# Altium footprint library Connectors.PcbLib: 147 footprints (part 5 of 10)
Each footprint in its own frame and in the unit in brackets; x right, y up, seen from the top. Pads: shape width x height; smd on the part's side, far side on the other; paste and mask are expansions set on the pad; w line width, h text height; cw(c..) or ccw(c..) is an arc to the next point about the centre after c.
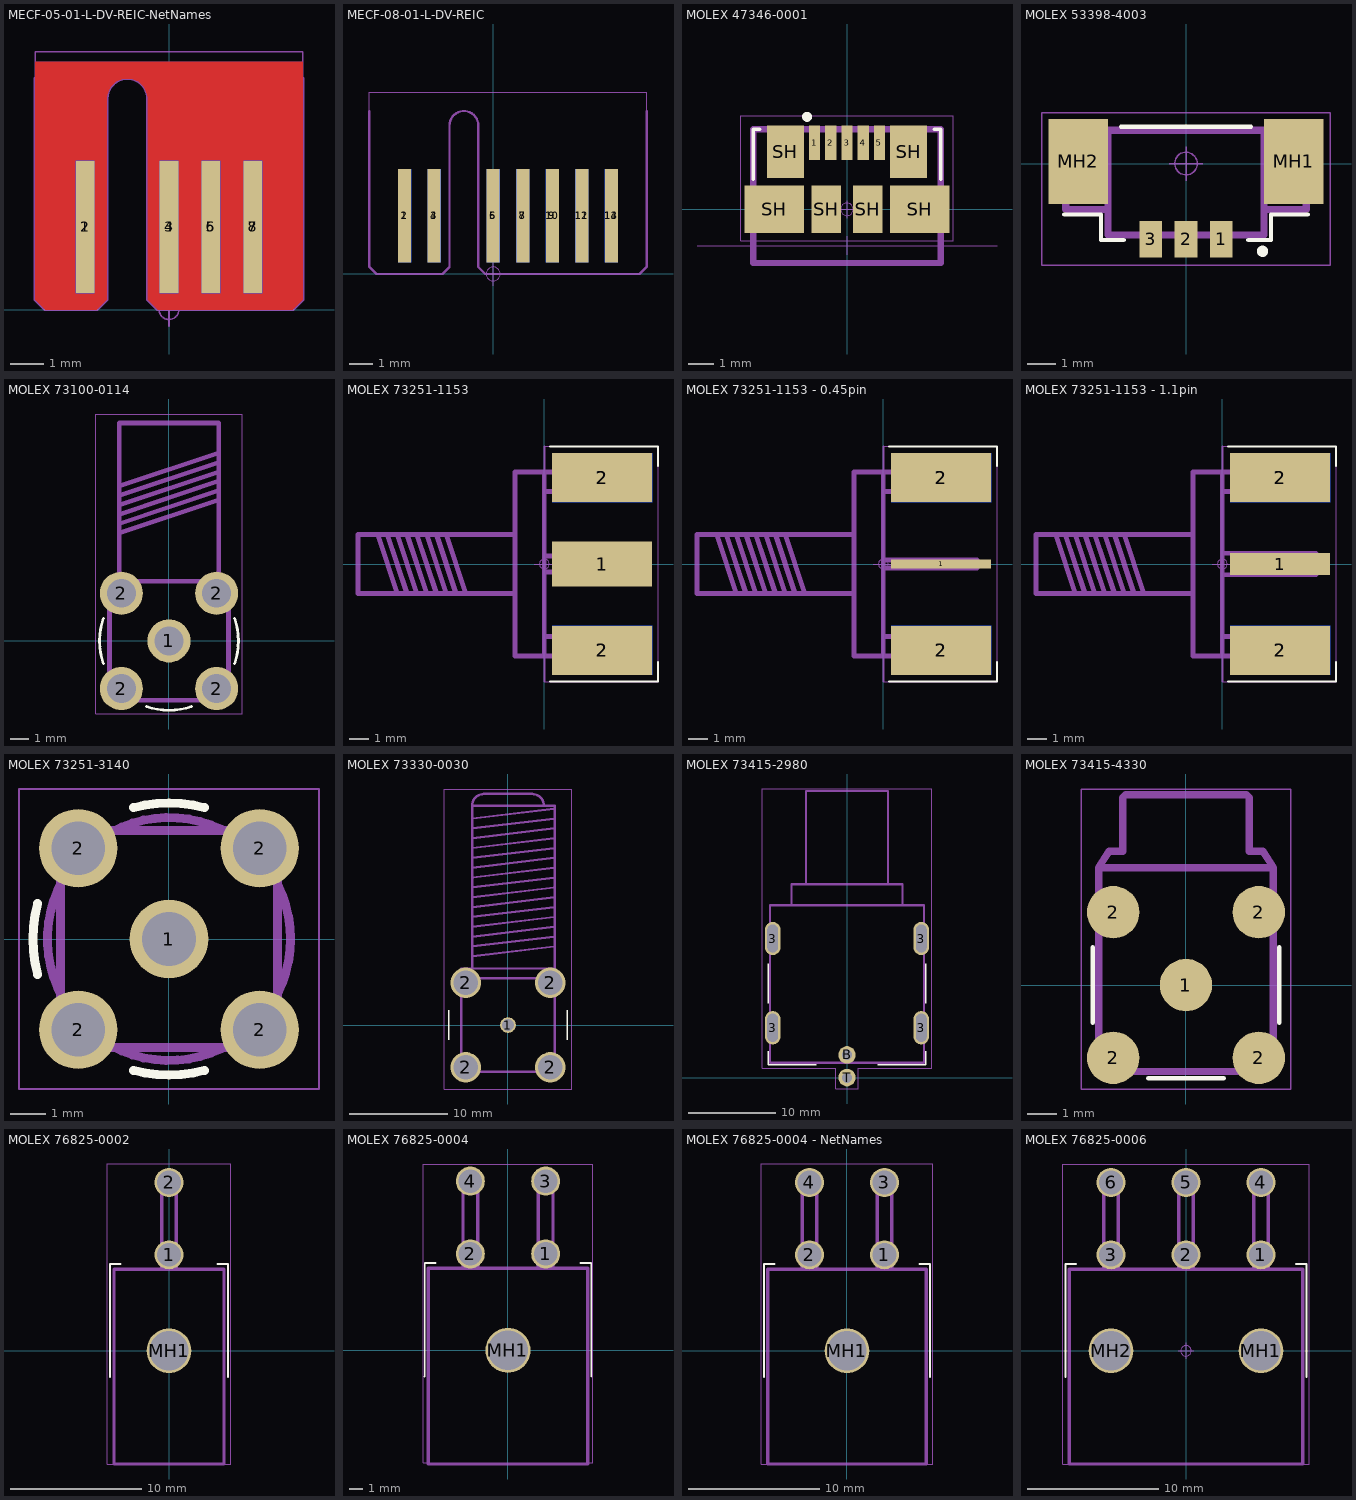
[diagram p4: the footprints below, top view; thin cyan lines are the x and y axes]

## MECF-05-01-L-DV-REIC-NetNames [mm] "Samtec MicroEdge 1.57mm Thick 5(4) pos Polatizaied DoubleRow Edge Connector"
pads (8):
  rect 0.56x4 smd paste-2539.97 mask+0.102: 1(-2.54,2.5) 3(0,2.5) 5(1.27,2.5) 7(2.54,2.5)
  rect 0.56x4 smd far side paste-2539.97 mask+0.102: 2(-2.54,2.5) 4(0,2.5) 6(1.27,2.5) 8(2.54,2.5)
Top Layer:
  pour cut-out: -3.75,0 -4.05,0.3 -4.05,7.5 4.05,7.5 4.05,0.3 3.75,0 -0.34,0 -0.64,0.3 -0.64,6.38 -0.652,6.501 -0.744,6.724 -0.916,6.896 -1.139,6.988 -1.381,6.988 -1.604,6.896 -1.776,6.724 -1.868,6.501 -1.88,6.38 -1.88,0.3 -2.18,0
Bottom Layer:
  pour cut-out: -3.75,0 -4.05,0.3 -4.05,7.5 4.05,7.5 4.05,0.3 3.75,0 -0.34,0 -0.64,0.3 -0.64,6.38 -0.652,6.501 -0.744,6.724 -0.916,6.896 -1.139,6.988 -1.381,6.988 -1.604,6.896 -1.776,6.724 -1.868,6.501 -1.88,6.38 -1.88,0.3 -2.18,0
Top Overlay:
  text ".Net7" at 2.949,7.7 h1.3
  text ".Net5" at 1.678,7.7 h1.3
  text ".Net3" at 0.41,7.7 h1.3
  text ".Net1" at -2.129,7.7 h1.3
Bottom Overlay:
  text ".Net8" at 2.95,7.7 h1.3
  text ".Net6" at 1.68,7.7 h1.3
  text ".Net4" at 0.409,7.7 h1.3
  text ".Net2" at -2.129,7.7 h1.3
Top Solder:
  region: -3.75,0 -4.05,0.3 -4.05,7.5 4.05,7.5 4.05,0.3 3.75,0 -0.34,0 -0.64,0.3 -0.64,6.38 -0.652,6.501 -0.744,6.724 -0.916,6.896 -1.139,6.988 -1.381,6.988 -1.604,6.896 -1.776,6.724 -1.868,6.501 -1.88,6.38 -1.88,0.3 -2.18,0
Bottom Solder:
  region: -3.75,0 -4.05,0.3 -4.05,7.5 4.05,7.5 4.05,0.3 3.75,0 -0.34,0 -0.64,0.3 -0.64,6.38 -0.652,6.501 -0.744,6.724 -0.916,6.896 -1.139,6.988 -1.381,6.988 -1.604,6.896 -1.776,6.724 -1.868,6.501 -1.88,6.38 -1.88,0.3 -2.18,0
Board:
  lines w0.1: -4.05,7 -4.05,0.3 -3.75,0 -2.18,0 -1.88,0.3 -1.88,6.38 cw(c-1.26,6.38) -0.64,6.38 -0.64,0.3 -0.34,0 3.75,0 4.05,0.3 4.05,7
Top Courtyard:
  circle w0.05: c0,0 r0.3
  lines w0.05: 0,-0.5 0,0.5 ; -4.05,0.3 -3.75,0 -2.18,0 -1.88,0.3 -1.88,6.38 cw(c-1.26,6.38) -0.64,6.38 -0.64,0.3 -0.34,0 3.75,0 4.05,0.3 4.05,7.8 -4.05,7.8 -4.05,0.3
Bottom Courtyard:
  circle w0.05: c0,0 r0.3
  lines w0.05: 0,-0.5 0,0.5 ; -4.05,0.3 -3.75,0 -2.18,0 -1.88,0.3 -1.88,6.38 cw(c-1.26,6.38) -0.64,6.38 -0.64,0.3 -0.34,0 3.75,0 4.05,0.3 4.05,7.8 -4.05,7.8 -4.05,0.3

## MECF-08-01-L-DV-REIC [mm] "Samtec MicroEdge 1.57mm Thick 8(7) pos Polatizaied DoubleRow Edge Connector"
pads (14):
  rect 0.56x4 smd paste-2539.97 mask+0.102: 1(-3.81,2.5) 3(-2.54,2.5) 5(0,2.5) 7(1.27,2.5) 9(2.54,2.5) 11(3.81,2.5) 13(5.08,2.5)
  rect 0.56x4 smd far side paste-2539.97 mask+0.102: 2(-3.81,2.5) 4(-2.54,2.5) 6(0,2.5) 8(1.27,2.5) 10(2.54,2.5) 12(3.81,2.5) 14(5.08,2.5)
Top Solder:
  region: -5.32,0.3 -5.32,7.5 6.59,7.5 6.59,0.3 6.29,0 -0.34,0 -0.64,0.3 -0.64,6.38 -0.652,6.501 -0.744,6.724 -0.916,6.896 -1.139,6.988 -1.381,6.988 -1.604,6.896 -1.776,6.724 -1.868,6.501 -1.88,6.38 -1.88,0.3 -2.18,0 -5.02,0
Bottom Solder:
  region: -5.32,0.3 -5.32,7.5 6.59,7.5 6.59,0.3 6.29,0 -0.34,0 -0.64,0.3 -0.64,6.38 -0.652,6.501 -0.744,6.724 -0.916,6.896 -1.139,6.988 -1.381,6.988 -1.604,6.896 -1.776,6.724 -1.868,6.501 -1.88,6.38 -1.88,0.3 -2.18,0 -5.02,0
Board:
  lines w0.1: -5.32,7 -5.32,0.3 -5.02,0 -2.18,0 -1.88,0.3 -1.88,6.38 cw(c-1.26,6.38) -0.64,6.38 -0.64,0.3 -0.34,0 6.29,0 6.59,0.3 6.59,7
Top Courtyard:
  circle w0.05: c0,0 r0.3
  lines w0.05: 0,-0.5 0,0.5 ; -5.32,0.3 -5.32,7.8 6.59,7.8 6.59,0.3 6.29,0 -0.34,0 -0.64,0.3 -0.64,6.38 ccw(c-1.26,6.38) -1.88,6.38 -1.88,0.3 -2.18,0 -5.02,0 -5.32,0.3
Bottom Courtyard:
  circle w0.05: c0,0 r0.3
  lines w0.05: 0,-0.5 0,0.5 ; -5.32,0.3 -5.32,7.8 6.59,7.8 6.59,0.3 6.29,0 -0.34,0 -0.64,0.3 -0.64,6.38 ccw(c-1.26,6.38) -1.88,6.38 -1.88,0.3 -2.18,0 -5.02,0 -5.32,0.3

## MOLEX 47346-0001 [mm] "Molex USB - micro B USB 2.0 Receptacle Connector 5 Position Surface Mount, Right Angle"
height 3.5
pads (11):
  rect 0.45x1.38 smd: 1(-1.3,2.66) 2(-0.65,2.66) 3(0,2.66) 4(0.65,2.66) 5(1.3,2.66)
  rect 2.375x1.9 smd: SH(-2.913,0) SH(2.913,0)
  rect 1.475x2.1 smd: SH(-2.462,2.3) SH(2.462,2.3)
  rect 1.175x1.9 smd: SH(-0.837,0) SH(0.837,0)
Top Overlay:
  circle w0.25: c-1.6,3.7 r0.075
  lines w0.15: -3.75,1.2 -3.75,3.2 -3.5,3.2 ; 3.5,3.2 3.75,3.2 3.75,1.2
Top Assembly:
  lines w0.25: -3.75,-2.15 -3.75,3.2 3.75,3.2 3.75,-2.15 -3.75,-2.15
  text ".Designator" at -3.302,-0.099 h1.5
Top Courtyard:
  circle w0.05: c0,0 r0.25
  lines w0.05: -6,-1.45 6,-1.45 ; -0.35,0 0.35,0 ; 0,-1.825 0,-1.075 ; 0,-0.35 0,0.35 ; -4.25,-1.25 4.25,-1.25 4.25,3.75 -4.25,3.75 -4.25,-1.25
  text "PCB EDGE" at -5.91,-1.853 h0.31
3D body "47346-0001--3DModel-STEP-56544.STEP": height 2.7, standoff -0.25, extent -4.18,-2.205 4.18,3.225

## MOLEX 53398-4003 [mm] "1.25mm Pitch, PicoBlade PCB Header, Single Row, Vertical, Surface Mount, Gold Flash Plating, 3 Circuits, Tape and Reel"
height 4.7
pads (5):
  rect 0.8x1.3 smd: 1(1.25,-2.675) 2(0,-2.675) 3(-1.25,-2.675)
  rect 2.1x3 smd: MH1(3.8,0.075) MH2(-3.8,0.075)
Top Overlay:
  circle w0.25: c2.7,-3.1 r0.075
  lines w0.15: -4.3,-1.8 -3,-1.8 -3,-2.7 -2.2,-2.7 ; -2.3,1.3 2.3,1.3 ; 2.2,-2.7 3,-2.7 3,-1.8 4.3,-1.8
Top Assembly:
  lines w0.25: -2.75,-1.625 -4.25,-1.625 -4.25,1.175 4.25,1.175 4.25,-1.625 2.75,-1.625 ; -2.75,1.175 -2.75,-2.525 2.75,-2.525 2.75,1.175
  text ".Designator" at -5.637,-0.566 h2.5
Top Courtyard:
  circle w0.05: c0,0 r0.4
  lines w0.05: -0.6,0 0.6,0 ; 0,-0.6 0,0.6 ; -5.098,-3.598 5.098,-3.598 5.098,1.798 -5.098,1.798 -5.098,-3.598
3D body "533984003_Colors.STEP": height 4.71, standoff 0.01, extent -4.45,-3.025 4.45,1.175

## MOLEX 73100-0114 [mm] "50 Ohms, SMA Right-Angle PCB Jack Receptacle, Brass Body, Gold Plated, Tray"
height 9.5
pads (5):
  round 2.3 hole 1.54 paste-2539.97: 1(0,0) 2(-2.54,-2.54) 2(-2.54,2.54) 2(2.54,-2.54) 2(2.54,2.54)
Top Overlay:
  lines w0.15: -3.5,-1.2 cw(c0,0) -3.5,1.2 ; -1.2,-3.5 ccw(c0,0) 1.2,-3.5 ; 3.5,-1.2 ccw(c0,0) 3.5,1.2
Top Assembly:
  lines w0.25: -2.62,5.76 2.6,7.5 ; -2.62,6.26 2.6,8 ; -2.62,6.76 2.6,8.5 ; -2.62,7.26 2.6,9 ; -2.62,7.76 2.6,9.5 ; -2.62,8.26 2.6,10 ; -3.173,-3.173 3.173,-3.173 3.173,3.173 -3.173,3.173 -3.173,-3.173 ; -2.648,3.177 2.648,3.177 2.648,11.623 -2.648,11.623 -2.648,3.177
  text ".Designator" at -3.379,-0.339 h1.5
Top Courtyard:
  circle w0.05: c0,0 r0.4
  lines w0.05: -0.6,0 0.6,0 ; 0,-0.6 0,0.6 ; -3.898,-3.898 3.898,-3.898 3.898,12.098 -3.898,12.098 -3.898,-3.898
3D body "Molex_731000114_Colors.STEP": height 9.62, standoff -3.88, extent -3.175,-3.175 3.175,11.625

## MOLEX 73251-1153 [mm] "MOLEX 50 Ohms, SMA Jack Receptacle, Edge Mount, .25µm Gold (Au) Plating"
height 4.5
pads (5):
  rect 5.1x2.3 smd: 1(2.95,0)
  rect 5.1x2.5 smd: 2(2.95,-4.4) 2(2.95,4.4)
  rect 5.1x2.5 smd far side: 2(2.95,-4.4) 2(2.95,4.4)
Top Overlay:
  lines w0.1: 0.3,-6 5.8,-6 5.8,-5 ; 0.3,6 5.8,6 5.8,5
Bottom Overlay:
  lines w0.1: 0.3,-6 5.8,-6 5.8,-5 ; 0.3,6 5.8,6 5.8,5
Top Assembly:
  lines w0.25: -8.5,1.5 -7.5,-1.5 ; -8,1.5 -7,-1.5 ; -7.5,1.5 -6.5,-1.5 ; -7,1.5 -6,-1.5 ; -6.5,1.5 -5.5,-1.5 ; -6,1.5 -5,-1.5 ; -5.5,1.5 -4.5,-1.5 ; -5,1.5 -4,-1.5 ; -1.5,-1.5 -9.5,-1.5 -9.5,1.5 -1.5,1.5 ; 0,-3.7 4.75,-3.7 4.75,-4.7 0,-4.7 ; 0,-0.4 4.775,-0.4 4.775,0.4 0,0.4 ; 0,3.7 4.75,3.7 4.75,4.7 0,4.7 ; 0,-4.7 -1.5,-4.7 -1.5,4.7 0,4.7 ; 0,-4.7 0,4.7
  text ".Designator" at 0.3,1.3 h1.5
Bottom Assembly:
  lines w0.25: -8.5,1.5 -7.5,-1.5 ; -8,1.5 -7,-1.5 ; -7.5,1.5 -6.5,-1.5 ; -7,1.5 -6,-1.5 ; -6.5,1.5 -5.5,-1.5 ; -6,1.5 -5,-1.5 ; -5.5,1.5 -4.5,-1.5 ; -5,1.5 -4,-1.5 ; -1.5,-1.5 -9.5,-1.5 -9.5,1.5 -1.5,1.5 ; 0,-3.7 4.75,-3.7 4.75,-4.7 0,-4.7 ; 0,3.7 4.75,3.7 4.75,4.7 0,4.7 ; 0,-4.7 0,4.7 ; 0,-4.7 -1.5,-4.7 -1.5,4.7 0,4.7
Board:
  lines w0.1: 0,-6 0,6
Top Courtyard:
  circle w0.05: c0,0 r0.25
  lines w0.05: -0.5,0 0.5,0 ; 0,-6 0,6 5.8,6 5.8,-6 0,-6
Bottom Courtyard:
  circle w0.05: c0,0 r0.25
  lines w0.05: -0.5,0 0.5,0 ; 0,-6 5.8,-6 5.8,6 0,6 0,-6
3D body "732511150.stp": height 4.36, standoff -3.56, extent -9.5,-4.762 4.775,4.763

## MOLEX 73251-1153 - 0.45pin [mm] "MOLEX 50 Ohms, SMA Jack Receptacle, Edge Mount, .25µm Gold (Au) Plating"
height 4.5
pads (5):
  rect 5.1x0.45 smd: 1(2.95,0)
  rect 5.1x2.5 smd: 2(2.95,-4.4) 2(2.95,4.4)
  rect 5.1x2.5 smd far side: 2(2.95,-4.4) 2(2.95,4.4)
Top Overlay:
  lines w0.1: 0.3,-6 5.8,-6 5.8,-5 ; 0.3,6 5.8,6 5.8,5
Bottom Overlay:
  lines w0.1: 0.3,-6 5.8,-6 5.8,-5 ; 0.3,6 5.8,6 5.8,5
Top Assembly:
  lines w0.25: -8.5,1.5 -7.5,-1.5 ; -8,1.5 -7,-1.5 ; -7.5,1.5 -6.5,-1.5 ; -7,1.5 -6,-1.5 ; -6.5,1.5 -5.5,-1.5 ; -6,1.5 -5,-1.5 ; -5.5,1.5 -4.5,-1.5 ; -5,1.5 -4,-1.5 ; -1.5,-1.5 -9.5,-1.5 -9.5,1.5 -1.5,1.5 ; 0,-3.7 4.75,-3.7 4.75,-4.7 0,-4.7 ; 0,-0.2 4.775,-0.2 4.775,0.2 0,0.2 ; 0,3.7 4.75,3.7 4.75,4.7 0,4.7 ; 0,-4.7 0,4.7 ; 0,-4.7 -1.5,-4.7 -1.5,4.7 0,4.7
  text ".Designator" at 0.3,1.3 h1.5
Bottom Assembly:
  lines w0.25: -8.5,1.5 -7.5,-1.5 ; -8,1.5 -7,-1.5 ; -7.5,1.5 -6.5,-1.5 ; -7,1.5 -6,-1.5 ; -6.5,1.5 -5.5,-1.5 ; -6,1.5 -5,-1.5 ; -5.5,1.5 -4.5,-1.5 ; -5,1.5 -4,-1.5 ; -1.5,-1.5 -9.5,-1.5 -9.5,1.5 -1.5,1.5 ; 0,-3.7 4.75,-3.7 4.75,-4.7 0,-4.7 ; 0,3.7 4.75,3.7 4.75,4.7 0,4.7 ; 0,-4.7 -1.5,-4.7 -1.5,4.7 0,4.7 ; 0,-4.7 0,4.7
Board:
  lines w0.1: 0,-6 0,6
Top Courtyard:
  circle w0.05: c0,0 r0.25
  lines w0.05: -0.5,0 0.5,0 ; 0,-6 0,6 5.8,6 5.8,-6 0,-6
Bottom Courtyard:
  circle w0.05: c0,0 r0.25
  lines w0.05: -0.5,0 0.5,0 ; 0,-6 0,6 5.8,6 5.8,-6 0,-6
3D body "732511150.stp": height 4.36, standoff -3.56, extent -9.5,-4.762 4.775,4.763

## MOLEX 73251-1153 - 1.1pin [mm] "MOLEX 50 Ohms, SMA Jack Receptacle, Edge Mount, .25µm Gold (Au) Plating"
height 4.5
pads (5):
  rect 5.1x1.1 smd: 1(2.95,0)
  rect 5.1x2.5 smd: 2(2.95,-4.4) 2(2.95,4.4)
  rect 5.1x2.5 smd far side: 2(2.95,-4.4) 2(2.95,4.4)
Top Overlay:
  lines w0.1: 0.3,-6 5.8,-6 5.8,-5 ; 0.3,6 5.8,6 5.8,5
Bottom Overlay:
  lines w0.1: 0.3,-6 5.8,-6 5.8,-5 ; 0.3,6 5.8,6 5.8,5
Top Assembly:
  lines w0.25: -8.5,1.5 -7.5,-1.5 ; -8,1.5 -7,-1.5 ; -7.5,1.5 -6.5,-1.5 ; -7,1.5 -6,-1.5 ; -6.5,1.5 -5.5,-1.5 ; -6,1.5 -5,-1.5 ; -5.5,1.5 -4.5,-1.5 ; -5,1.5 -4,-1.5 ; -1.5,-1.5 -9.5,-1.5 -9.5,1.5 -1.5,1.5 ; 0,-3.7 4.75,-3.7 4.75,-4.7 0,-4.7 ; 0,-0.55 4.775,-0.55 4.775,0.55 0,0.55 ; 0,3.7 4.75,3.7 4.75,4.7 0,4.7 ; 0,-4.7 0,4.7 ; 0,-4.7 -1.5,-4.7 -1.5,4.7 0,4.7
  text ".Designator" at 0.3,1.3 h1.5
Bottom Assembly:
  lines w0.25: -8.5,1.5 -7.5,-1.5 ; -8,1.5 -7,-1.5 ; -7.5,1.5 -6.5,-1.5 ; -7,1.5 -6,-1.5 ; -6.5,1.5 -5.5,-1.5 ; -6,1.5 -5,-1.5 ; -5.5,1.5 -4.5,-1.5 ; -5,1.5 -4,-1.5 ; -1.5,-1.5 -9.5,-1.5 -9.5,1.5 -1.5,1.5 ; 0,-3.7 4.75,-3.7 4.75,-4.7 0,-4.7 ; 0,3.7 4.75,3.7 4.75,4.7 0,4.7 ; 0,-4.7 -1.5,-4.7 -1.5,4.7 0,4.7 ; 0,-4.7 0,4.7
Board:
  lines w0.1: 0,-6 0,6
Top Courtyard:
  circle w0.05: c0,0 r0.25
  lines w0.05: -0.5,0 0.5,0 ; 0,-6 5.8,-6 5.8,6 0,6 0,-6
Bottom Courtyard:
  circle w0.05: c0,0 r0.25
  lines w0.05: -0.5,0 0.5,0 ; 0,-6 0,6 5.8,6 5.8,-6 0,-6
3D body "732511150.stp": height 4.36, standoff -3.56, extent -9.5,-4.762 4.775,4.763

## MOLEX 73251-3140 [mm] "MOLEX 50 Ohms, SMA PCB Jack Receptacle, Through Hole"
height 10.5
pads (5):
  round 2.2 hole 1.5: 1(0,0) 2(-2.54,-2.54) 2(-2.54,2.54) 2(2.54,-2.54) 2(2.54,2.54)
Top Overlay:
  lines w0.25: -3.676,-0.994 cw(c0,0) -3.676,0.994 ; -0.994,-3.676 ccw(c0,0) 0.994,-3.676 ; -0.994,3.676 cw(c0,0) 0.994,3.676
Top Assembly:
  circle w0.25: c0,0 r3.4
  lines w0.25: -3.04,-3.04 -3.04,3.04 3.04,3.04 3.04,-3.04 -3.04,-3.04
  text ".Designator" at -2.4,-0.518 h1.5
Top Courtyard:
  circle w0.05: c0,0 r0.4
  lines w0.05: -0.6,0 0.6,0 ; 0,-0.6 0,0.6 ; -4.198,-4.198 4.198,-4.198 4.198,4.198 -4.198,4.198 -4.198,-4.198
3D body "732513140.stp": height 9.55, standoff -3.95, extent -3.129,-3.128 3.129,3.128

## MOLEX 73330-0030 [mm] "75 Ohms, F Right-Angle Printed Circuit Board Jack Receptacle"
height 16
pads (5):
  round 1.6 hole 1.2: 1(0,0)
  round 3.1 hole 2.5: 2(-4.3,-4.3) 2(-4.3,4.3) 2(4.3,-4.3) 2(4.3,4.3)
Top Overlay:
  lines w0.15: -6,-1.5 -6,1.5 ; 6,-1.5 6,1.5
Top Assembly:
  lines w0.25: -3.65,22.3 cw(c-2.449,22.3) -2.449,23.501 2.45,23.501 cw(c2.45,22.3) 3.651,22.3 ; -3.6,7 4.701,7.988 ; -3.6,8 4.701,8.988 ; -3.6,9 4.701,9.988 ; -3.6,10 4.701,10.988 ; -3.6,11 4.701,11.988 ; -3.6,12 4.701,12.988 ; -3.6,13 4.701,13.988 ; -3.6,14 4.701,14.988 ; -3.6,15 4.701,15.988 ; -3.6,16 4.701,16.988 ; -3.6,17 4.701,17.988 ; -3.6,18 4.701,18.988 ; -3.6,19 4.701,19.988 ; -3.6,20 4.701,20.988 ; -3.6,21 4.701,21.988 ; -4.75,4.75 4.75,4.75 ; -4.75,4.75 -4.75,-4.75 4.75,-4.75 4.75,4.75 ; -4.75,4.75 4.75,4.75 ; -4.75,4.75 -4.75,5.75 4.75,5.75 4.75,4.75 ; -3.648,5.752 4.748,5.752 4.748,22.298 -3.648,22.298 -3.648,5.752
  text ".Designator" at -3.378,-0.339 h1.5
Top Courtyard:
  circle w0.05: c0,0 r0.4
  lines w0.05: -0.6,0 0.6,0 ; 0,-0.6 0,0.6 ; -6.5,-6.5 6.5,-6.5 6.5,24 -6.5,24 -6.5,-6.5
3D body "733300030.stp": height 13.01, standoff -4.69, extent -4.75,-4.75 4.75,23.45

## MOLEX 73415-2980 [mm] "50 Ohms, BNC Jack, Dual Stack, Tray"
height 30.5
pads (6):
  oval 1.8x3.8 hole 1.2 slot 3.2 at 90 deg: 3(-8.5,5.703) 3(-8.5,15.903) 3(8.5,5.703) 3(8.5,15.903)
  round 2 hole 1.2: B(0,2.603) T(0,0)
Top Overlay:
  lines w0.15: -9,3 -9,1.5 -3.5,1.5 ; -9,8.5 -9,13 ; 3.5,1.5 9,1.5 9,3 ; 9,8.5 9,13
Top Assembly:
  lines w0.25: -6.323,19.703 -6.35,19.703 -6.35,22.103 6.35,22.103 6.35,19.703 6.364,19.703 ; -4.675,22.103 -4.675,32.783 4.675,32.783 4.675,22.103 ; -8.8,1.703 -8.8,19.703 8.8,19.703 8.8,1.703 -8.8,1.703
  text ".Designator" at -3.378,4.261 h1.5
Top Courtyard:
  lines w0.05: -0.7,0 0.7,0 ; 0,-0.7 0,0.7 ; -9.7,1.1 -1.3,1.1 -1.3,-1.3 1.3,-1.3 1.3,1.1 9.7,1.1 9.7,33 -9.7,33 -9.7,1.1
3D body "734152980_colors.STEP": height 30.51, standoff -5.09, extent -8.8,-0.5 8.8,32.783

## MOLEX 73415-4330 [mm] "75 Ohms, MCX Jack, Right-Angle, Nickel Plated Outer Contact, Tri-M Plated Housing, Tray"
height 6.5
pads (5):
  round 1.8 smd: 1(0,0) 2(-2.5,-2.5) 2(-2.5,2.5) 2(2.5,-2.5) 2(2.5,2.5)
Top Overlay:
  lines w0.15: -3.2,-1.3 -3.2,1.3 ; -1.3,-3.2 1.3,-3.2 ; 3.2,-1.3 3.2,1.3
Top Assembly:
  lines w0.25: -3,4.03 -2.636,4.595 -2.175,4.595 -2.175,6.43 -2.075,6.53 2.075,6.53 2.175,6.43 2.175,4.595 2.637,4.595 3,4.03 ; -2.998,-2.968 2.998,-2.968 2.998,4.028 -2.998,4.028 -2.998,-2.968
  text ".Designator" at -3.378,-0.339 h1.5
Top Courtyard:
  circle w0.05: c0,0 r0.4
  lines w0.05: -0.6,0 0.6,0 ; 0,-0.6 0,0.6 ; -3.598,-3.568 3.598,-3.568 3.598,6.728 -3.598,6.728 -3.598,-3.568
3D body "734154330_Colors.STEP": height 6.51, standoff 0.01, extent -3,-3 3,6.53

## MOLEX 76825-0002 [mm] "Mega-Fit Right-Angle Header, 2 Circuits, Tin (Sn) Plating, UL 94 V-0, Glow-Wire Capable, Tray"
height 14.53
pads (3):
  round 2.2 hole 1.8: 1(0,7.3) 2(0,12.8)
  round 3.4 hole 3 unplated: MH1(0,0)
Top Overlay:
  lines w0.15: -4.501,-1.976 -4.5,-1.975 -4.5,6.6 -3.701,6.6 ; 3.701,6.6 4.5,6.6 4.5,-1.975 4.501,-1.976
Top Assembly:
  lines w0.25: -0.56,6.2 -0.56,13.36 ; -0.56,6.74 0.56,6.74 ; -0.56,7.86 0.56,7.86 ; -0.56,12.24 0.56,12.24 ; 0.56,6.2 0.56,13.36 ; -0.56,13.36 -0.56,13.36 ; -0.56,13.36 0.56,13.36 ; 0.56,13.36 0.56,13.36 ; -4.18,-8.6 -4.18,6.2 4.18,6.2 4.18,-8.6 -4.18,-8.6
  text ".Designator" at -3,-2.718 h1.5
Top Courtyard:
  circle w0.05: c0,0 r0.4
  lines w0.05: -0.6,0 0.6,0 ; 0,-0.6 0,0.6 ; -4.7,-8.6 4.7,-8.6 4.7,14.2 -4.7,14.2 -4.7,-8.6
3D body "768250002.STEP": height 14.55, standoff -3.59, extent -4.177,-8.6 4.172,13.362

## MOLEX 76825-0004 [mm] "Mega-Fit Right-Angle Header, 4 Circuits, Tin (Sn) Plating, UL 94 V-0, Glow-Wire Capable, Tray"
height 14.53
pads (5):
  round 2.2 hole 1.8: 1(2.85,7.3) 2(-2.85,7.3) 3(2.85,12.8) 4(-2.85,12.8)
  round 3.4 hole 3 unplated: MH1(0,0)
Top Overlay:
  lines w0.15: -6.3,-1.976 -6.299,-1.975 -6.299,6.6 -5.5,6.6 ; 5.5,6.6 6.299,6.6 6.299,-1.975
Top Assembly:
  lines w0.25: -3.41,6.2 -3.41,13.36 ; -3.41,6.74 -2.29,6.74 ; -3.41,7.86 -2.29,7.86 ; -3.41,12.24 -2.29,12.24 ; -2.29,6.2 -2.29,13.36 ; 2.29,6.2 2.29,13.36 ; 2.29,6.74 3.41,6.74 ; 2.29,7.86 3.41,7.86 ; 2.29,12.24 3.41,12.24 ; 3.41,6.2 3.41,13.36 ; -3.41,13.36 -2.29,13.36 ; -3.41,13.36 -3.41,13.36 ; -2.29,13.36 -2.29,13.36 ; 2.29,13.36 3.41,13.36 ; 2.29,13.36 2.29,13.36 ; 3.41,13.36 3.41,13.36 ; -6.025,-8.6 6.025,-8.6 6.025,6.2 -6.025,6.2 -6.025,-8.6
  text ".Designator" at -3,-2.718 h1.5
Top Courtyard:
  circle w0.05: c0,0 r0.4
  lines w0.05: -0.6,0 0.6,0 ; 0,-0.6 0,0.6 ; -6.423,-8.498 6.423,-8.498 6.423,14.098 -6.423,14.098 -6.423,-8.498
3D body "768250004_colors.STEP": height 14.52, standoff -3.62, extent -6.025,-8.6 6.035,13.362

## MOLEX 76825-0004 - NetNames [mm] "Mega-Fit Right-Angle Header, 4 Circuits, Tin (Sn) Plating, UL 94 V-0, Glow-Wire Capable, Tray, With Net Names on Overlay"
height 14.53
pads (5):
  round 2.2 hole 1.8: 1(2.85,7.3) 2(-2.85,7.3) 3(2.85,12.8) 4(-2.85,12.8)
  round 3.4 hole 3 unplated: MH1(0,0)
Top Overlay:
  lines w0.15: -6.3,-1.976 -6.299,-1.975 -6.299,6.6 -5.5,6.6 ; 5.5,6.6 6.299,6.6 6.299,-1.975
  text ".Net1" at 4.2,7.01 h1
  text ".Net2" at -6.3,7.11 h1
  text ".Net3" at 4.2,12.511 h1
  text ".Net4" at -6.4,12.51 h1
Top Assembly:
  lines w0.25: -3.41,6.2 -3.41,13.36 ; -3.41,6.74 -2.29,6.74 ; -3.41,7.86 -2.29,7.86 ; -3.41,12.24 -2.29,12.24 ; -2.29,6.2 -2.29,13.36 ; 2.29,6.2 2.29,13.36 ; 2.29,6.74 3.41,6.74 ; 2.29,7.86 3.41,7.86 ; 2.29,12.24 3.41,12.24 ; 3.41,6.2 3.41,13.36 ; -3.41,13.36 -3.41,13.36 ; -3.41,13.36 -2.29,13.36 ; -2.29,13.36 -2.29,13.36 ; 2.29,13.36 2.29,13.36 ; 2.29,13.36 3.41,13.36 ; 3.41,13.36 3.41,13.36 ; -6.025,-8.6 -6.025,6.2 6.025,6.2 6.025,-8.6 -6.025,-8.6
  text ".Designator" at -3,-2.718 h1.5
Top Courtyard:
  circle w0.05: c0,0 r0.4
  lines w0.05: -0.6,0 0.6,0 ; 0,-0.6 0,0.6 ; -6.525,-8.6 -6.525,14.2 6.525,14.2 6.525,-8.6 -6.525,-8.6
3D body "768250004_colors.STEP": height 14.52, standoff -3.62, extent -6.025,-8.6 6.035,13.362

## MOLEX 76825-0006 [mm] "Mega-Fit Right-Angle Header, 6 Circuits, Tin (Sn) Plating, UL 94 V-0, Glow-Wire Capable, Tray"
height 14.53
pads (8):
  round 2.2 hole 1.8: 1(5.7,7.3) 2(0,7.3) 3(-5.7,7.3) 4(5.7,12.8) 5(0,12.8) 6(-5.7,12.8)
  round 3.4 hole 3 unplated: MH1(5.7,0) MH2(-5.7,0)
Top Overlay:
  lines w0.15: -9.15,-1.976 -9.149,-1.975 -9.149,6.6 -8.35,6.6 ; 8.35,6.6 9.149,6.6 9.149,-1.975
Top Assembly:
  lines w0.25: -6.26,6.2 -6.26,13.36 ; -6.26,6.74 -5.14,6.74 ; -6.26,7.86 -5.14,7.86 ; -6.26,12.24 -5.14,12.24 ; -5.14,6.2 -5.14,13.36 ; -0.56,6.2 -0.56,13.36 ; -0.56,6.74 0.56,6.74 ; -0.56,7.86 0.56,7.86 ; -0.56,12.24 0.56,12.24 ; 0.56,6.2 0.56,13.36 ; 5.14,6.2 5.14,13.36 ; 5.14,6.74 6.26,6.74 ; 5.14,7.86 6.26,7.86 ; 5.14,12.24 6.26,12.24 ; 6.26,6.2 6.26,13.36 ; -6.26,13.36 -6.26,13.36 ; -6.26,13.36 -5.14,13.36 ; -5.14,13.36 -5.14,13.36 ; -0.56,13.36 -0.56,13.36 ; -0.56,13.36 0.56,13.36 ; 0.56,13.36 0.56,13.36 ; 5.14,13.36 5.14,13.36 ; 5.14,13.36 6.26,13.36 ; 6.26,13.36 6.26,13.36 ; -8.873,-8.598 8.873,-8.598 8.873,6.198 -8.873,6.198 -8.873,-8.598
  text ".Designator" at -3.378,-0.339 h1.5
Top Courtyard:
  circle w0.05: c0,0 r0.4
  lines w0.05: -0.6,0 0.6,0 ; 0,-0.6 0,0.6 ; -9.375,-8.6 -9.375,14.2 9.375,14.2 9.375,-8.6 -9.375,-8.6
3D body "768250006_colors.STEP": height 14.55, standoff -3.59, extent -8.875,-8.6 8.885,13.362